# Altium schematic symbol library AFBR-RX_1.SchLib: 1 symbol
Pins are listed as number, name and electrical type; pins without a type are passive.

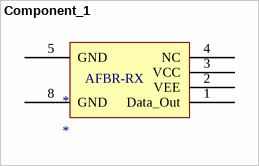
[diagram p0: symbol Component_1]

## Component_1
designator *
pins: 1 Data_Out, 2 VEE, 3 VCC, 4 NC, 5 GND, 8 GND
text: AFBR-RX